# Altium schematic symbol library FerriteBeads.SchLib: 1 symbol
Pins are listed as number, name and electrical type; pins without a type are passive.

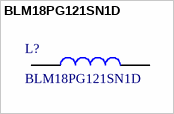
[diagram p0: symbol BLM18PG121SN1D]

## BLM18PG121SN1D
designator L?
footprint BLM18SP221SN1B
pins: 1, 2